# Altium footprint library AMPHENOL_68002-405HLF.PcbLib: 1 footprints
Each footprint in its own frame and in the unit in brackets; x right, y up, seen from the top. Pads: shape width x height; smd on the part's side, far side on the other; paste and mask are expansions set on the pad; w line width, h text height; cw(c..) or ccw(c..) is an arc to the next point about the centre after c.
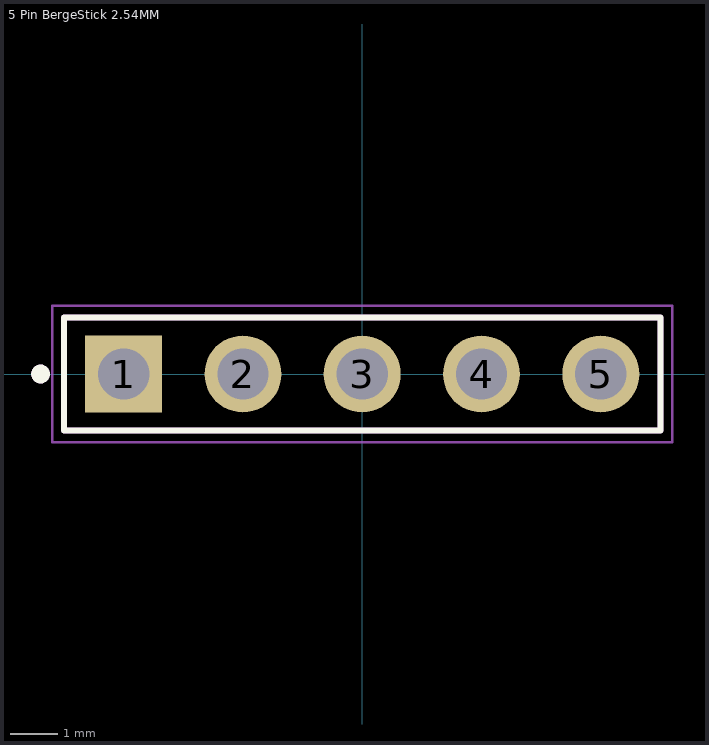
[diagram p0: the footprint, top view; thin cyan lines are the x and y axes]

## 5 Pin BergeStick 2.54MM [mil] "5 Pin 5Pos THT BergeStick 2.54MM Amphenol 68002-405HLF 3A AMPHENOL_68002-405HLF"
height 337.8
pads (5):
  rect 64.5x64.5 / inner round 64.5 / far side rect 64.5x64.5 hole 43: 1(-200,0)
  round 64.5 hole 43: 2(-100,0) 3(0,0) 4(100,0) 5(200,0)
Top Overlay:
  circle w7.87: c-269.69,0 r3.94
  lines w5: -250,-47.5 250,-47.5 250,47.5 -250,47.5 -250,-47.5
Assembly Top:
  circle w7.87: c-269.69,0 r3.94
  lines w5: -250,-47.5 250,-47.5 250,47.5 -250,47.5 -250,-47.5
Courtyard Top:
  lines w1.97: -259.84,-57.34 -259.84,57.34 259.84,57.34 259.84,-57.34 -259.84,-57.34
3D body "step_temp.STEP": height 329.92, standoff -150, extent -250,-47.44 250,47.44